# EAGLE library part MA13-2 (library componenten aanmaken)
PIN HEADER
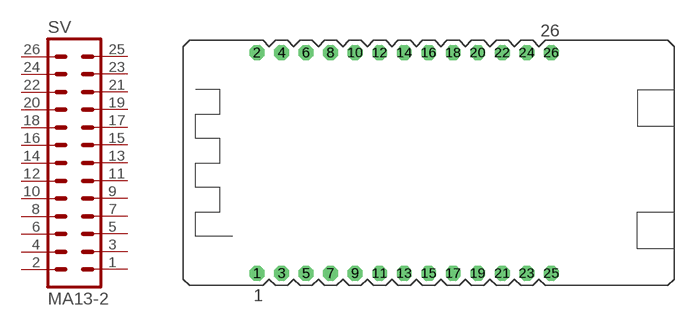
[diagram p4: symbol with the pads of MA13-2; footprint MA13-2]

Designator prefix SV

## MA13-2 (OC_FARNELL: unknown; OC_NEWARK: unknown)  [MA13-2]
1  1  pas
2  2  pas
3  3  pas
4  4  pas
5  5  pas
6  6  pas
7  7  pas
8  8  pas
9  9  pas
10  10  pas
11  11  pas
12  12  pas
13  13  pas
14  14  pas
15  15  pas
16  16  pas
17  17  pas
18  18  pas
19  19  pas
20  20  pas
21  21  pas
22  22  pas
23  23  pas
24  24  pas
25  25  pas
26  26  pas

## Footprint MA13-2 (pad centres in mm)
PIN HEADER
drill 1.016 octagon: 1 -15.24,-1.27; 2 -15.24,21.59; 3 -12.7,-1.27; 4 -12.7,21.59; 5 -10.16,-1.27; 6 -10.16,21.59; 7 -7.62,-1.27; 8 -7.62,21.59; 9 -5.08,-1.27; 10 -5.08,21.59; 11 -2.54,-1.27; 12 -2.54,21.59; 13 0,-1.27; 14 0,21.59; 15 2.54,-1.27; 16 2.54,21.59; 17 5.08,-1.27; 18 5.08,21.59; 19 7.62,-1.27; 20 7.62,21.59; 21 10.16,-1.27; 22 10.16,21.59; 23 12.7,-1.27; 24 12.7,21.59; 25 15.24,-1.27; 26 15.24,21.59